# Altium integrated library CX0603MRX7R6BB104.IntLib: 1 symbol
Pins are listed as number, name and electrical type; pins without a type are passive.

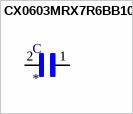
[diagram p0: symbol CX0603MRX7R6BB104]

## CX0603MRX7R6BB104
designator C
0.1ÂµF Â±20% 10V Ceramic Capacitor X7R 0603 (1608 Metric); MF: Yageo; MP: CX0603MRX7R6BB104; Package: 0603 Yageo; Value: *; Price: None; SnapEDA_Link: https://www.snapeda.com/parts/CX0603MRX7R6BB104/Yageo/view-part/493624/?ref=snap; Availability: Unavailable
footprint CAPC1608X90
pins: 1, 2